# Altium footprint library Power Connector.PcbLib: 25 footprints (part 1 of 2)
Each footprint in its own frame and in the unit in brackets; x right, y up, seen from the top. Pads: shape width x height; smd on the part's side, far side on the other; paste and mask are expansions set on the pad; w line width, h text height; cw(c..) or ccw(c..) is an arc to the next point about the centre after c.
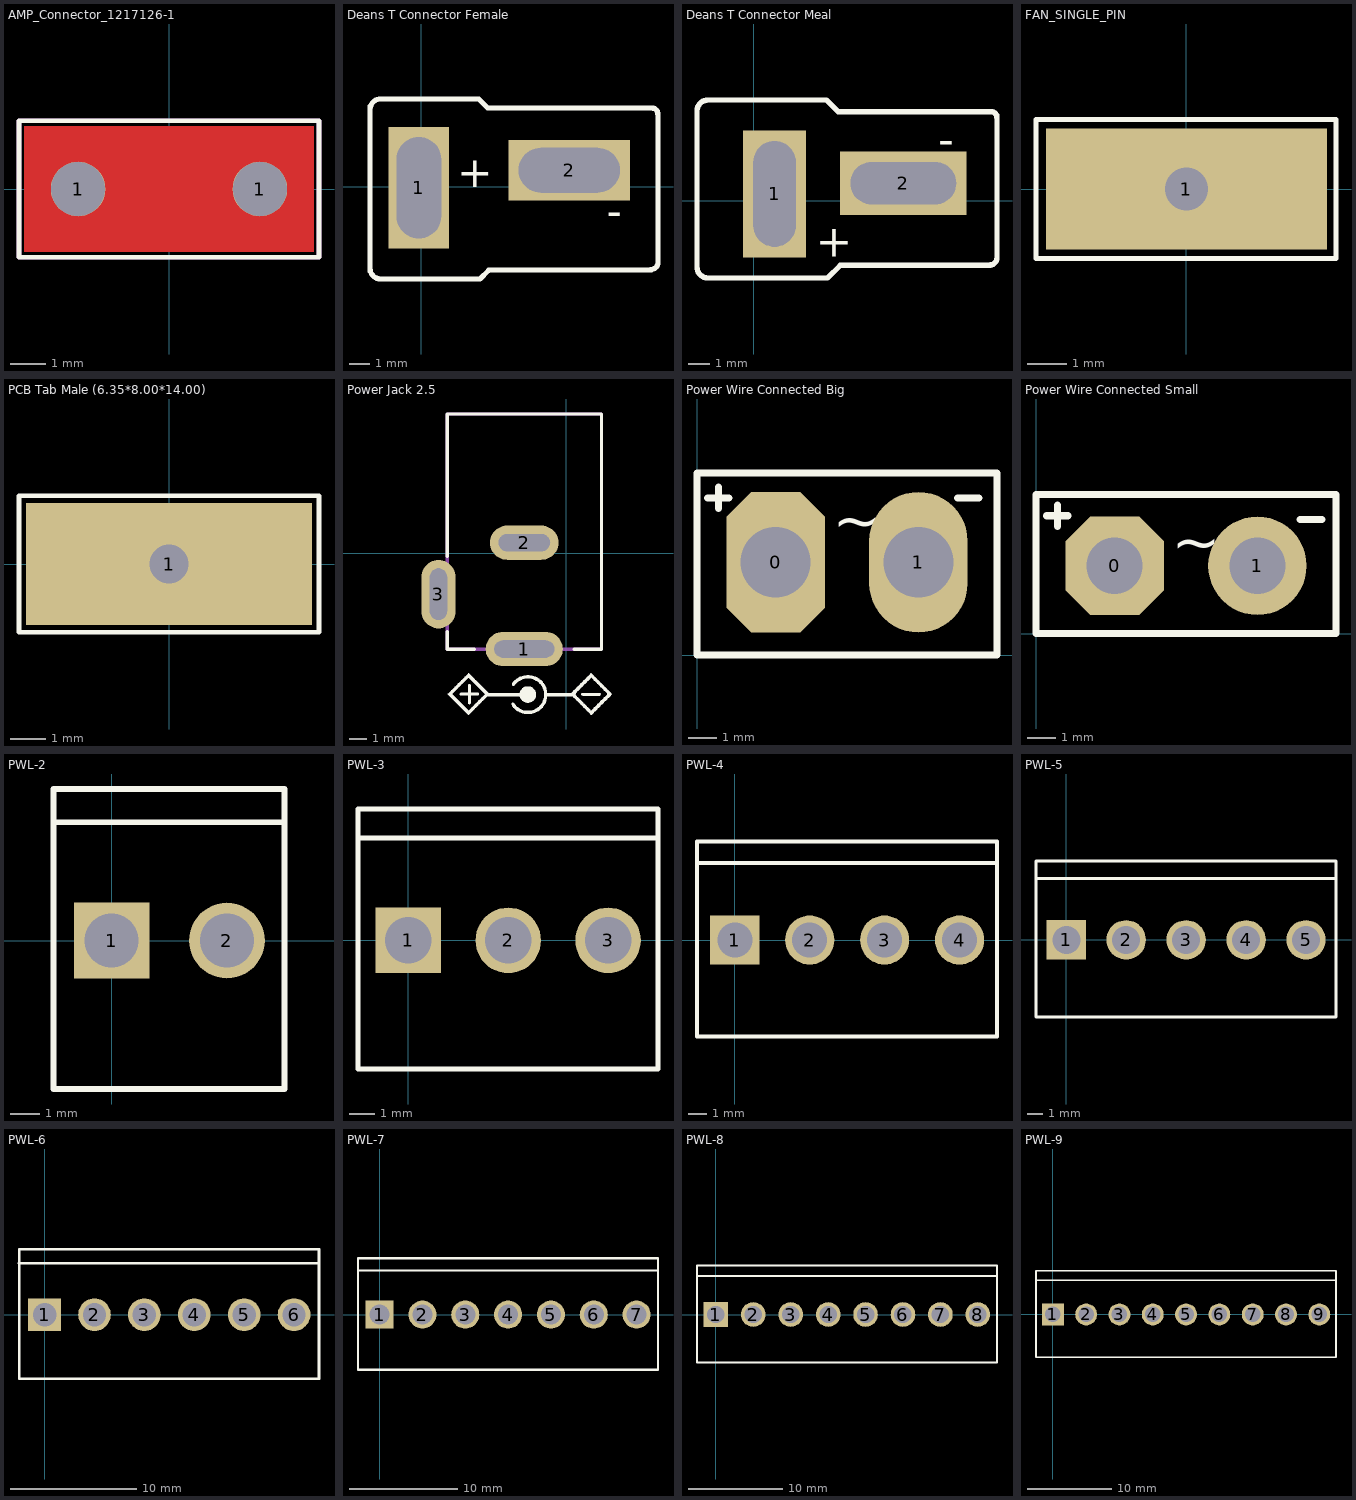
[diagram p0: the footprints below, top view; thin cyan lines are the x and y axes]

## AMP_Connector_1217126-1 [mm] "0.250\" (6.35mm) Quick Connect Male Solder Connector Non-Insulated"
pads (2):
  round 1.525 / inner round 3 / far side round 1.525 hole 1.5: 1(-2.54,0) 1(2.54,0)
Top Layer:
  region: 4.04,-1.75 4.04,1.75 0,1.75 0,-1.75
  region: -4.04,1.75 -4.04,-1.75 0,-1.75 0,1.75
Bottom Layer:
  region: 4.04,-1.75 4.04,1.75 0,1.75 0,-1.75
  region: -4.04,1.75 -4.04,-1.75 0,-1.75 0,1.75
Top Overlay:
  lines w0.127: -4.191,-1.905 -4.191,1.905 4.191,1.905 4.191,-1.905 -4.191,-1.905
Mechanical 1:
  lines w0.1: -3.962,-1.543 -3.962,1.543 3.962,1.543 3.962,-1.543 -3.962,-1.543
Mechanical 15:
  lines w0.127: -4.191,-1.905 4.191,-1.905 4.191,1.905 -4.191,1.905 -4.191,-1.905
  lines w0.152: -0.75,0 0.75,0 ; 0,-0.75 0,0.75
3D body "c-1217126-1-f-3d.stp": height 13.05, standoff -3.46, extent -3.962,-1.543 3.962,1.543

## Deans T Connector Female [mm] "30 A"
pads (2):
  rect 3x6 hole 2.2 slot 5 at 90 deg: 1(-0.127,-0.051)
  rect 6x3 hole 2.2 slot 5 at 0 deg: 2(7.29,0.813)
Top Layer:
  text "+" at 1.759,-0.039 h1.52
Bottom Layer:
  text "+" at 1.759,-0.039 h1.52
Top Overlay:
  lines w0.254: -2.53,-4.176 -2.53,-0.101 -2.53,3.974 ; -2.53,-4.026 ccw(c-2.018,-4.039) -2.03,-4.551 2.895,-4.551 3.323,-4.123 ; -2.53,3.824 cw(c-2.018,3.811) -2.005,4.324 2.826,4.324 3.275,3.875 ; 3.3,3.874 11.45,3.874 ; 3.35,-4.101 11.35,-4.101 ; 11.312,-4.085 ccw(c11.321,-3.737) 11.669,-3.745 ; 11.395,3.874 cw(c11.389,3.606) 11.656,3.599 ; 11.67,-3.737 11.67,-0.101 11.67,3.606
  text "-" at 9.15,-1.95 h1.52
  text "+" at 1.759,-0.039 h1.52
3D body "Deans-Female.STEP": height 21.7, standoff -4.2, extent -2.38,-3.851 11.47,3.649

## Deans T Connector Meal [mm] "30 A"
pads (2):
  rect 3x6 hole 2 slot 5 at 90 deg: 1(0.991,0.33)
  rect 6x3 hole 2 slot 5 at 0 deg: 2(7.087,0.838)
Top Layer:
  text "+" at 2.95,-2.65 h1.52
Bottom Layer:
  text "+" at 2.95,-2.65 h1.52
Top Overlay:
  lines w0.254: 11.162,-3.035 ccw(c11.171,-2.687) 11.519,-2.695 ; 11.2,-3.051 4.099,-3.051 3.499,-3.651 -2.18,-3.651 cw(c-2.168,-3.139) -2.68,-3.126 -2.68,0.499 -2.68,4.274 cw(c-2.168,4.261) -2.155,4.774 3.45,4.774 4,4.224 11.3,4.224 ; 11.245,4.224 cw(c11.239,3.956) 11.506,3.949 ; 11.52,-2.695 11.52,0.499 11.52,4.049
  text "-" at 8.75,2.15 h1.52
  text "+" at 2.95,-2.65 h1.52
3D body "Deans-Male.STEP": height 14.7, standoff -4.2, extent -2.431,-3.267 11.169,4.233

## FAN_SINGLE_PIN [mm]
pads (1):
  rect 7.2x3.1 hole 1.1 square: 1(0,0)
Top Overlay:
  lines w0.127: -3.861,-1.778 3.835,-1.778 3.835,1.778 -3.861,1.778 -3.861,-1.778
Mechanical 1:
  lines w0.1: -3.1,-0.4 -3.1,0.4 3.1,0.4 3.1,-0.4 -3.1,-0.4
3D body "Pin.stp": height 13, standoff -3, extent -3.1,-0.4 3.1,0.4

## PCB Tab Male (6.35*8.00*14.00) [mm]
pads (1):
  rect 8x3.4 hole 1.1 square: 1(0,0)
Top Overlay:
  lines w0.127: -4.191,-1.905 -4.191,1.905 4.191,1.905 4.191,-1.905 -4.191,-1.905
Mechanical 1:
  lines w0.1: -3.1,-0.4 3.1,-0.4 3.1,0.4 -3.1,0.4 -3.1,-0.4
3D body "c-2376582-2-a-3d.stp": height 10, standoff -4, extent -4.5,-0.4 4.5,0.4

## Power Jack 2.5 [mm]
pads (3):
  oval 4.5x2 hole 1 slot 3.5 at 0 deg: 1(-2.436,-5.586)
  oval 4x2 hole 1 slot 3 at 0 deg: 2(-2.436,0.614)
  oval 2x4 hole 1 slot 3 at 90 deg: 3(-7.436,-2.386)
Top Overlay:
  drawing of 546 lines, arcs and shapes, not listed
Mechanical 7:
  lines w0.2: -6.936,-5.586 2.064,-5.586 2.064,8.114 -6.936,8.114 -6.936,-4.586 -6.936,-5.586
  lines w1: -7.436,-3.386 -7.436,-1.386 ; -3.636,-5.586 -1.236,-5.586 ; -3.436,0.614 -1.436,0.614
3D body "Power Jack - TSH-3655-PBT-T.stp": height 11, standoff -3.5, extent -7.643,-6.121 1.857,8.379

## Power Wire Connected Big [mm] "High Current"
pads (2):
  oct 3.5x5 hole 2.5: 0(2.794,3.302)
  oval 3.5x5 hole 2.5: 1(7.874,3.302)
Top Overlay:
  lines w0.254: 0.381,5.588 1.143,5.588 ; 0.762,5.207 0.762,5.969 ; 9.271,5.588 10.033,5.588 ; 0,0 10.668,0 10.668,6.477 0,6.477 0,0
  text "~" at 4.826,4.064 h1.52

## Power Wire Connected Small [mm] "Low Current"
pads (2):
  oct 3.5x3.5 hole 2: 0(2.794,2.413)
  round 3.5 hole 2: 1(7.874,2.413)
Top Overlay:
  lines w0.254: 0.381,4.191 1.143,4.191 ; 0.762,3.81 0.762,4.572 ; 9.398,4.064 10.16,4.064 ; 0,0 0,4.953 10.668,4.953 10.668,0 0,0
  text "~" at 4.826,2.54 h1.52

## PWL-2 [mm] "Connector; Header; 2 Position"
height 0.001
pads (2):
  rect 2.6x2.6 hole 1.85: 1(0,0)
  round 2.6 hole 1.85: 2(3.96,0)
Top Overlay:
  lines w0.2: -2,4.064 5.94,4.064 ; -2,-5.1 -2,5.207 5.94,5.207 5.94,-5.1 -2,-5.1
3D body "PWL-2.stp": height 13.5, standoff -4, extent -1.98,-5 5.94,5

## PWL-3 [mm] "Connector; Header; 3 Position"
height 0.001
pads (3):
  rect 2.6x2.6 hole 1.85: 1(0,0)
  round 2.6 hole 1.85: 2(3.96,0) 3(7.92,0)
Top Overlay:
  lines w0.2: -2,4.064 9.9,4.064 ; -2,-5.1 9.9,-5.1 9.9,5.207 -2,5.207 -2,-5.1
3D body "PWL-3.stp": height 13.5, standoff -4, extent -2.005,-5.229 9.875,4.771

## PWL-4 [mm] "Connector; Header; 4 Position"
height 0.001
pads (4):
  rect 2.6x2.6 hole 1.85: 1(0,0)
  round 2.6 hole 1.85: 2(3.96,0) 3(7.92,0) 4(11.88,0)
Top Overlay:
  lines w0.2: -2,4.064 13.86,4.064 ; -2,-5.1 13.86,-5.1 13.86,5.207 -2,5.207 -2,-5.1
3D body "PWL-4.stp": height 13.5, standoff -4, extent -1.98,-5 13.86,5

## PWL-5 [mm] "Connector; Header; 5 Position"
height 0.001
pads (5):
  rect 2.6x2.6 hole 1.85: 1(0,0)
  round 2.6 hole 1.85: 2(3.96,0) 3(7.92,0) 4(11.88,0) 5(15.84,0)
Top Overlay:
  lines w0.2: -2,4.064 17.82,4.064 ; -2,-5.1 17.82,-5.1 17.82,5.207 -2,5.207 -2,-5.1
3D body "PWL-5.stp": height 13.5, standoff -4, extent -1.98,-5 17.82,5

## PWL-6 [mm] "Connector; Header; 6 Position"
height 0.001
pads (6):
  rect 2.6x2.6 hole 1.85: 1(0,0)
  round 2.6 hole 1.85: 2(3.96,0) 3(7.92,0) 4(11.88,0) 5(15.84,0) 6(19.8,0)
Top Overlay:
  lines w0.2: -2.032,4.064 21.78,4.064 ; -2,-5.1 -2,5.207 21.78,5.207 21.78,-5.1 -2,-5.1
3D body "PWL-6.stp": height 13.5, standoff -4, extent -1.98,-5 21.78,5

## PWL-7 [mm] "Connector; Header; 7 Position"
height 0.001
pads (7):
  rect 2.6x2.6 hole 1.85: 1(0,0)
  round 2.6 hole 1.85: 2(3.96,0) 3(7.92,0) 4(11.88,0) 5(15.84,0) 6(19.8,0) 7(23.76,0)
Top Overlay:
  lines w0.2: -2,4.064 25.74,4.064 ; -2,-5.1 -2,5.207 25.74,5.207 25.74,-5.1 -2,-5.1
3D body "PWL-7.stp": height 13.5, standoff -4, extent -1.98,-5 25.74,5

## PWL-8 [mm] "Connector; Header; 8 Position"
height 0.001
pads (8):
  rect 2.6x2.6 hole 1.85: 1(0,0)
  round 2.6 hole 1.85: 2(3.96,0) 3(7.92,0) 4(11.88,0) 5(15.84,0) 6(19.8,0) 7(23.76,0) 8(27.72,0)
Top Overlay:
  lines w0.2: -2,4.064 29.75,4.064 ; -2,-5.1 -2,5.207 29.75,5.207 29.75,-5.1 -2,-5.1
3D body "PWL-8.stp": height 13.5, standoff -4, extent -1.962,-4.92 29.718,5.08

## PWL-9 [mm] "Connector; Header; 9 Position"
height 0.001
pads (9):
  rect 2.6x2.6 hole 1.85: 1(0,0)
  round 2.6 hole 1.85: 2(3.96,0) 3(7.92,0) 4(11.88,0) 5(15.84,0) 6(19.8,0) 7(23.76,0) 8(27.72,0) 9(31.68,0)
Top Overlay:
  lines w0.2: -2,4.064 33.66,4.064 ; -2,-5.1 33.66,-5.1 33.66,5.207 -2,5.207 -2,-5.1
3D body "PWL-9.stp": height 13.5, standoff -4, extent -1.98,-5 33.66,5